# EAGLE library part TIMER_NE555 (library !GPLIB_ACTIVE)
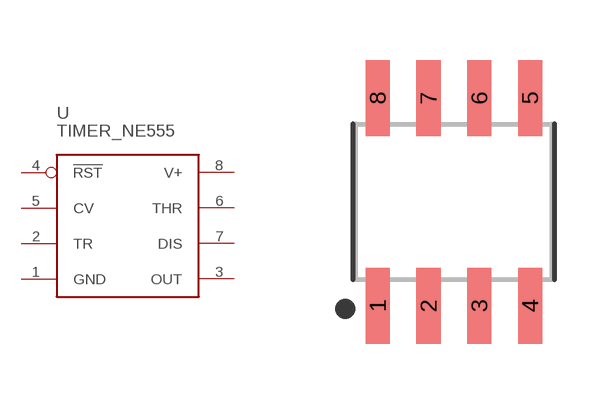
[diagram p30: symbol with the pads of SOIC-8P; footprint SOIC-8P]

Designator prefix U

## TIMER_NE555_NE555DR  [SOIC-8P]
1  GND  pwr
2  TR  in
3  OUT  out
4  !RST  in
5  CV  in
6  THR  in
7  DIS  in
8  V+  pwr

## TIMER_NE555_TLC555DTR(XBLW)  [SOIC-8P]
Pads as for SOIC-8P

## Footprint SOIC-8P (pad centres in mm)
8-SOIC, 1.27 mm pitch, 6.00 mm span, 4.90 X 3.90 X 1.75 mm body 8-pin SOIC package with 1.27 mm pitch, 6.00 mm span with body size 4.90 X 3.90 X 1.75 mm
smd 0.602 x 1.904: 1 -1.905,-2.6; 2 -0.635,-2.6; 3 0.635,-2.6; 4 1.905,-2.6; 5 1.905,2.6; 6 0.635,2.6; 7 -0.635,2.6; 8 -1.905,2.6